# Altium schematic symbol library SCH - POWER - MODULE - TI TPSM843320SIT.SchLib: 1 symbol
Pins are listed as number, name and electrical type; pins without a type are passive.

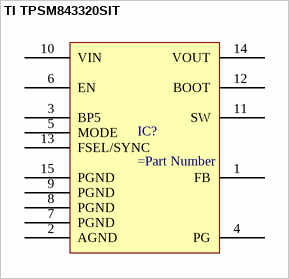
[diagram p0: symbol TI TPSM843320SIT]

## TI TPSM843320SIT
designator IC?
pins: 1 FB, 2 AGND, 3 BP5, 4 PG, 5 MODE, 6 EN, 7 PGND, 8 PGND, 9 PGND, 10 VIN, 11 SW, 12 BOOT, 13 FSEL/SYNC, 14 VOUT, 15 PGND